# Altium footprint library Actuator_Base_Board.PcbLib: 18 footprints (part 1 of 2)
Each footprint in its own frame and in the unit in brackets; x right, y up, seen from the top. Pads: shape width x height; smd on the part's side, far side on the other; paste and mask are expansions set on the pad; w line width, h text height; cw(c..) or ccw(c..) is an arc to the next point about the centre after c.
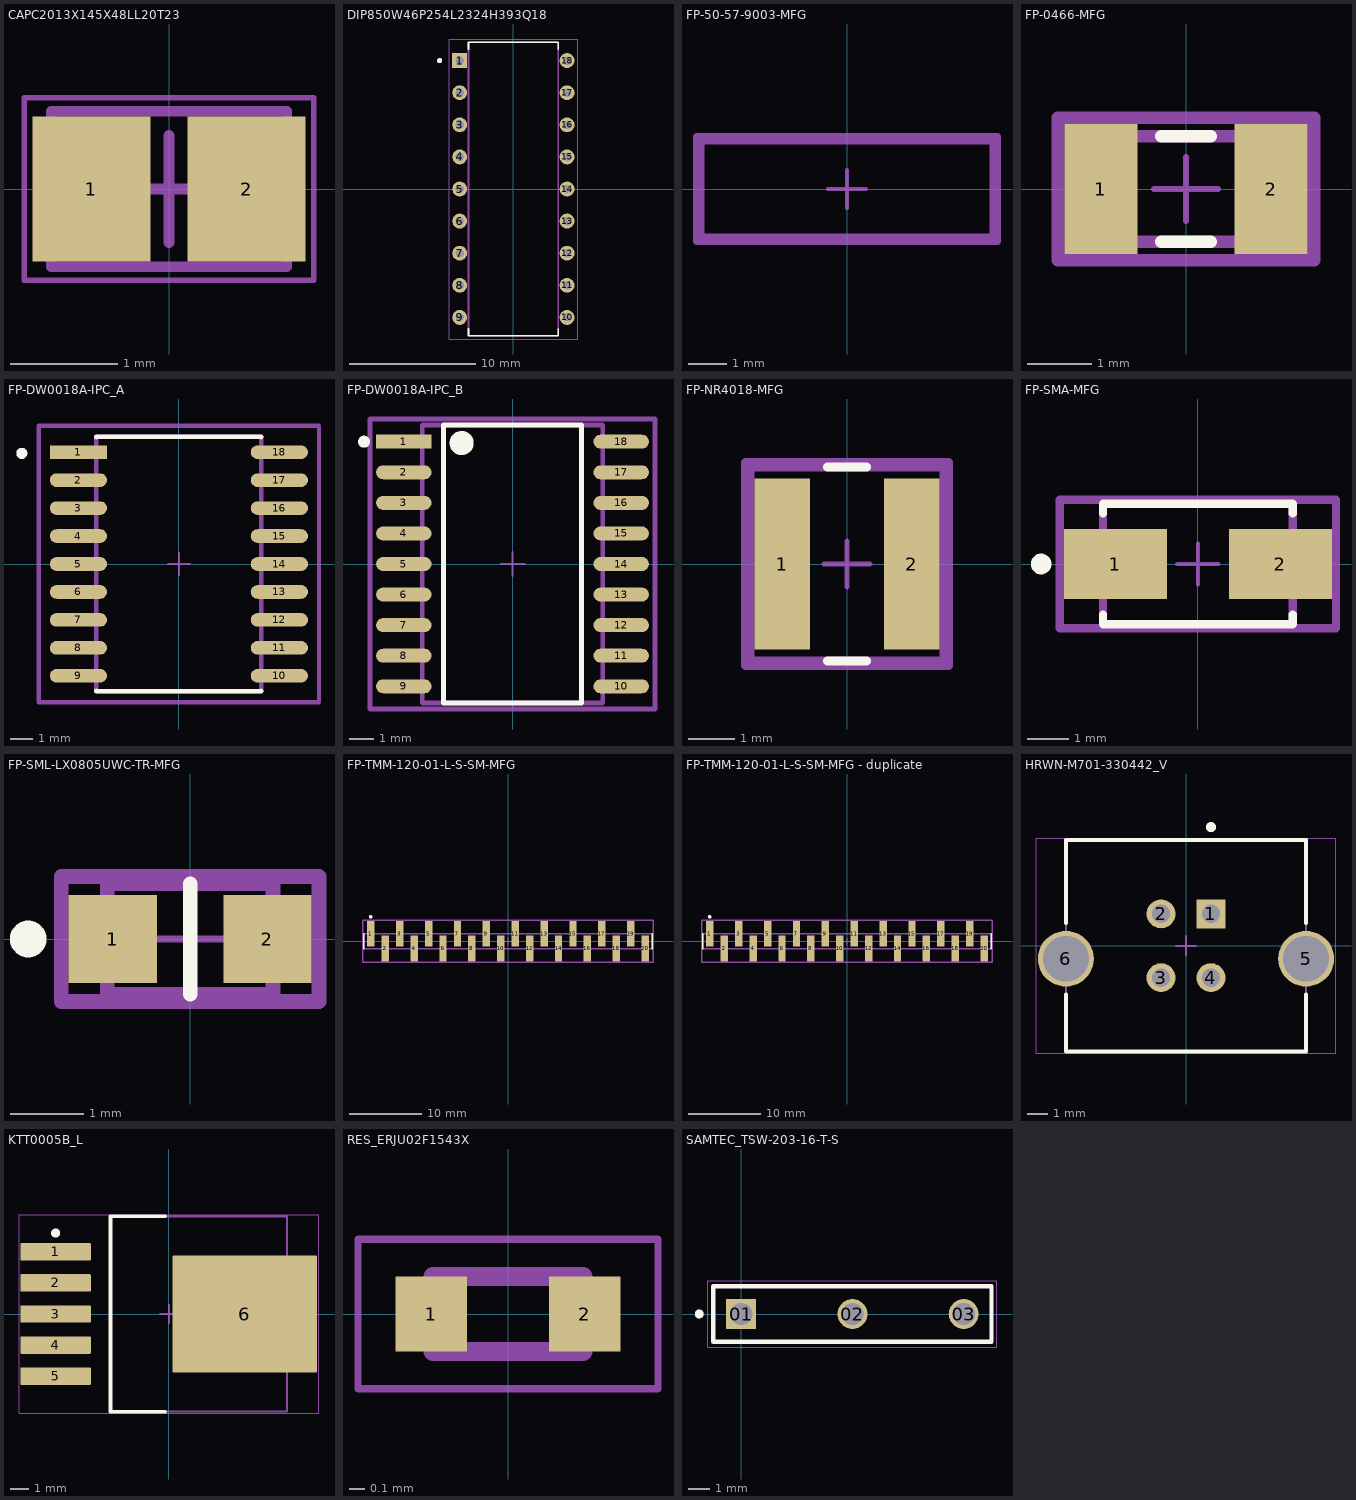
[diagram p0: the footprints below, top view; thin cyan lines are the x and y axes]

## CAPC2013X145X48LL20T23 [mm] "Chip Capacitor, 2-Leads, Body 2.00x1.25mm, IPC High Density"
height 1.45
pads (2):
  rect 1.1x1.35 smd: 1(-0.725,0) 2(0.725,0)
Mechanical 13:
  lines w0.1: -1.1,-0.725 1.1,-0.725 1.1,0.725 -1.1,0.725 -1.1,-0.725
Top Courtyard:
  lines w0.05: -1.35,-0.85 1.35,-0.85 1.35,0.85 -1.35,0.85 -1.35,-0.85
  lines w0.1: -0.5,0 0.5,0 ; 0,-0.5 0,0.5
3D body: height 1.45, standoff 0, extent 0.62,-0.725 1.1,0.725
3D body: height 1.45, standoff 0, extent -1.1,-0.725 -0.62,0.725
3D body: height 1.45, standoff 0, extent -0.62,-0.725 0.62,0.725

## DIP850W46P254L2324H393Q18 [mm]
height 3.93
pads (18):
  rect 1.178x1.178 / inner round 1.178 / far side rect 1.178x1.178 hole 0.67: 1(-4.25,10.16)
  round 1.178 hole 0.67: 2(-4.25,7.62) 3(-4.25,5.08) 4(-4.25,2.54) 5(-4.25,0) 6(-4.25,-2.54) 7(-4.25,-5.08) 8(-4.25,-7.62) 9(-4.25,-10.16) 10(4.25,-10.16) 11(4.25,-7.62) 12(4.25,-5.08) 13(4.25,-2.54) 14(4.25,0) 15(4.25,2.54) 16(4.25,5.08) 17(4.25,7.62) 18(4.25,10.16)
Top Overlay:
  circle w0.2: c-5.839,10.16 r0.1
  lines w0.127: -3.55,-11.069 -3.55,-11.62 3.55,-11.62 3.55,-11.069 ; -3.55,11.069 -3.55,11.62 3.55,11.62 3.55,11.069
Mechanical 13:
  circle w0.2: c-5.839,10.16 r0.1
  lines w0.127: -3.55,-11.62 3.55,-11.62 3.55,11.62 -3.55,11.62 -3.55,-11.62
Top Courtyard:
  lines w0.05: -5.089,-11.87 -5.089,11.87 5.089,11.87 5.089,-11.87 -5.089,-11.87
3D body "step_temp.STEP": height 3.93, standoff -3.3, extent -4.375,-11.62 4.375,11.62

## FP-50-57-9003-MFG [mm]
Top 3D Body:
  lines w0.2: -3.795,-1.255 3.795,-1.255 3.795,1.255 -3.795,1.255 -3.795,-1.255
Top Assembly:
  lines w0.2: -3.895,-1.355 3.895,-1.355 3.895,1.355 -3.895,1.355 -3.895,-1.355
Top Courtyard:
  lines w0.2: -3.895,-1.355 3.895,-1.355 3.895,1.355 -3.895,1.355 -3.895,-1.355
Top Component Center:
  lines w0.1: -0.5,0 0.5,0 ; 0,-0.5 0,0.5
3D body "Conn_Molex_50-57-9003_eec.STEP": height 0.25, standoff 0, extent -3.895,-1.355 3.895,1.355

## FP-0466-MFG [mil]
pads (2):
  rect 45x80 smd paste+0 mask+0: 1(-52.5,0) 2(52.5,0)
Top Overlay:
  lines w7.87: -15.24,-32.5 15.24,-32.5 ; -15.24,32.5 15.24,32.5
Top 3D Body:
  lines w7.87: -65,-32.5 65,-32.5 65,32.5 -65,32.5 -65,-32.5
Top Assembly:
  lines w7.87: -78.94,-43.94 78.94,-43.94 78.94,43.94 -78.94,43.94 -78.94,-43.94
  text ".Designator" at 0,7.38 h39.37
Top Courtyard:
  lines w7.87: -78.94,-43.94 78.94,-43.94 78.94,43.94 -78.94,43.94 -78.94,-43.94
Top Component Center:
  lines w3.94: -19.68,0 19.68,0 ; 0,-19.68 0,19.68
3D body "Fuse_Littelfuse_0466003_NR_eec.STEP": height 10, standoff 0, extent -78.94,-43.94 78.94,43.94

## FP-DW0018A-IPC_A [mm]
pads (18):
  rect 2.603x0.622 smd paste+0 mask+0: 1(-4.565,5.08)
  rrect100% 2.603x0.622 smd paste+0 mask+0: 2(-4.565,3.81) 3(-4.565,2.54) 4(-4.565,1.27) 5(-4.565,0) 6(-4.565,-1.27) 7(-4.565,-2.54) 8(-4.565,-3.81) 9(-4.565,-5.08) 10(4.565,-5.08) 11(4.565,-3.81) 12(4.565,-2.54) 13(4.565,-1.27) 14(4.565,0) 15(4.565,1.27) 16(4.565,2.54) 17(4.565,3.81) 18(4.565,5.08)
Top Overlay:
  circle w0.25: c-7.142,5.03 r0.125
  lines w0.2: -3.75,-5.766 -3.75,-5.775 3.75,-5.775 3.75,-5.766 ; -3.75,5.766 -3.75,5.775 3.75,5.775 3.75,5.766
Top 3D Body:
  lines w0.2: -3.75,-5.775 3.75,-5.775 3.75,5.775 -3.75,5.775 -3.75,-5.775
Top Assembly:
  lines w0.2: -6.367,-6.275 6.367,-6.275 6.367,6.275 -6.367,6.275 -6.367,-6.275
  text ".Designator" at 0,0.187 h1
Top Courtyard:
  lines w0.2: -6.367,-6.275 6.367,-6.275 6.367,6.275 -6.367,6.275 -6.367,-6.275
Top Component Center:
  lines w0.1: -0.5,0 0.5,0 ; 0,-0.5 0,0.5
3D body "IC_Texas_Instruments_ULN2803ADWRG4_eec.STEP": height 0.25, standoff 0, extent -6.367,-6.275 6.367,6.275

## FP-DW0018A-IPC_B [mm]
pads (18):
  rect 2.303x0.582 smd paste+0 mask+0: 1(-4.515,5.08)
  rrect100% 2.303x0.582 smd paste+0 mask+0: 2(-4.515,3.81) 3(-4.515,2.54) 4(-4.515,1.27) 5(-4.515,0) 6(-4.515,-1.27) 7(-4.515,-2.54) 8(-4.515,-3.81) 9(-4.515,-5.08) 10(4.515,-5.08) 11(4.515,-3.81) 12(4.515,-2.54) 13(4.515,-1.27) 14(4.515,0) 15(4.515,1.27) 16(4.515,2.54) 17(4.515,3.81) 18(4.515,5.08)
Top Overlay:
  circle w0.25: c-6.167,5.08 r0.125
  circle w0.5: c-2.114,5.025 r0.25
  lines w0.2: -2.864,-5.775 -2.864,5.775 2.864,5.775 2.864,-5.775 -2.864,-5.775
Top 3D Body:
  lines w0.2: -3.75,-5.775 -3.75,5.775 3.75,5.775 3.75,-5.775 -3.75,-5.775
Top Assembly:
  lines w0.2: -5.917,-6.025 -5.917,6.025 5.917,6.025 5.917,-6.025 -5.917,-6.025
  text ".Designator" at 0,0.187 h1
Top Courtyard:
  lines w0.2: -5.917,-6.025 -5.917,6.025 5.917,6.025 5.917,-6.025 -5.917,-6.025
Top Component Center:
  lines w0.1: -0.5,0 0.5,0 ; 0,-0.5 0,0.5
3D body "IC_Texas_Instruments_ULN2803ADWRG4_eec.STEP": height 0.25, standoff 0, extent -5.917,-6.025 5.917,6.025

## FP-NR4018-MFG [mm]
pads (2):
  rect 1.2x3.7 smd paste+0 mask+0: 1(-1.4,0) 2(1.4,0)
Top Overlay:
  lines w0.2: -0.425,-2.1 0.425,-2.1 ; -0.425,2.1 0.425,2.1
Top 3D Body:
  lines w0.2: -2.1,-2.1 2.1,-2.1 2.1,2.1 -2.1,2.1 -2.1,-2.1
Top Assembly:
  lines w0.2: -2.2,-2.2 2.2,-2.2 2.2,2.2 -2.2,2.2 -2.2,-2.2
  text ".Designator" at 0,0.187 h1
Top Courtyard:
  lines w0.2: -2.2,-2.2 2.2,-2.2 2.2,2.2 -2.2,2.2 -2.2,-2.2
Top Component Center:
  lines w0.1: -0.5,0 0.5,0 ; 0,-0.5 0,0.5
3D body "Ind_Taiyo_Yuden_NR4018T220M_eec.STEP": height 0.25, standoff 0, extent -2.2,-2.2 2.2,2.2

## FP-SMA-MFG [mm]
pads (2):
  rect 2.5x1.7 smd paste+0 mask+0: 1(-2,0) 2(2,0)
Top Overlay:
  circle w0.25: c-3.8,0 r0.125
  lines w0.2: -2.3,-1.225 -2.3,-1.46 2.3,-1.46 2.3,-1.225 ; -2.3,1.225 -2.3,1.46 2.3,1.46 2.3,1.225
Top 3D Body:
  lines w0.2: -2.3,-1.46 -2.3,1.46 2.3,1.46 2.3,-1.46 -2.3,-1.46
Top Assembly:
  lines w0.2: -3.35,-1.56 -3.35,1.56 3.35,1.56 3.35,-1.56 -3.35,-1.56
  text ".Designator" at 0,0.187 h1
Top Courtyard:
  lines w0.2: -3.35,-1.56 -3.35,1.56 3.35,1.56 3.35,-1.56 -3.35,-1.56
Top Component Center:
  lines w0.1: -0.5,0 0.5,0 ; 0,-0.5 0,0.5
3D body "Diode_Diodes_Inc_SBRT5A50SA-13_eec.STEP": height 0.25, standoff 0, extent -3.35,-1.56 3.35,1.56

## FP-SML-LX0805UWC-TR-MFG [mm]
pads (2):
  rect 1.2x1.2 smd paste+0 mask+0: 1(-1.05,0) 2(1.05,0)
Top Overlay:
  circle w0.25: c-2.2,0 r0.125
  lines w0.2: 0,-0.75 0,0.75
Top 3D Body:
  lines w0.2: -1.125,-0.75 1.125,-0.75 1.125,0.75 -1.125,0.75 -1.125,-0.75
Top Assembly:
  lines w0.2: -1.75,-0.85 1.75,-0.85 1.75,0.85 -1.75,0.85 -1.75,-0.85
  text ".Designator" at 0,0.187 h1
Top Courtyard:
  lines w0.2: -1.75,-0.85 1.75,-0.85 1.75,0.85 -1.75,0.85 -1.75,-0.85
Top Component Center:
  lines w0.1: -0.5,0 0.5,0 ; 0,-0.5 0,0.5
3D body "Diode_Lumex_SML-LX0805UWC-TR_eec.STEP": height 0.25, standoff 0, extent -1.75,-0.85 1.75,0.85

## FP-TMM-120-01-L-S-SM-MFG [mm]
pads (20):
  rect 1.02x3.56 smd paste+0 mask+0: 1(-19,1.015) 2(-17,-1.015) 3(-15,1.015) 4(-13,-1.015) 5(-11,1.015) 6(-9,-1.015) 7(-7,1.015) 8(-5,-1.015) 9(-3,1.015) 10(-1,-1.015) 11(1,1.015) 12(3,-1.015) 13(5,1.015) 14(7,-1.015) 15(9,1.015) 16(11,-1.015) 17(13,1.015) 18(15,-1.015) 19(17,1.015) 20(19,-1.015)
Top Overlay:
  circle w0.25: c-19.025,3.37 r0.125
  lines w0.2: -19.885,-1.054 -20,-1.054 -20,1.054 -19.885,1.054 ; 19.885,-1.054 20,-1.054 20,1.054 19.885,1.054
Top 3D Body:
  lines w0.2: -20,-1.054 -20,1.054 20,1.054 20,-1.054 -20,-1.054
Top Assembly:
  lines w0.2: -20.1,-2.895 -20.1,2.895 20.1,2.895 20.1,-2.895 -20.1,-2.895
  text ".Designator" at 0,0.187 h1
Top Courtyard:
  lines w0.2: -20.1,-2.895 -20.1,2.895 20.1,2.895 20.1,-2.895 -20.1,-2.895
Top Component Center:
  lines w0.1: -0.5,0 0.5,0 ; 0,-0.5 0,0.5
3D body "Conn_Samtec_TMM-120-01-L-S-SM_eec.STEP": height 0.25, standoff 0, extent -20.1,-2.895 20.1,2.895

## FP-TMM-120-01-L-S-SM-MFG - duplicate [mm]
pads (20):
  rect 1.02x3.56 smd paste+0 mask+0: 1(-19,1.015) 2(-17,-1.015) 3(-15,1.015) 4(-13,-1.015) 5(-11,1.015) 6(-9,-1.015) 7(-7,1.015) 8(-5,-1.015) 9(-3,1.015) 10(-1,-1.015) 11(1,1.015) 12(3,-1.015) 13(5,1.015) 14(7,-1.015) 15(9,1.015) 16(11,-1.015) 17(13,1.015) 18(15,-1.015) 19(17,1.015) 20(19,-1.015)
Top Overlay:
  circle w0.25: c-19.025,3.37 r0.125
  lines w0.2: -19.885,-1.054 -20,-1.054 -20,1.054 -19.885,1.054 ; 19.885,-1.054 20,-1.054 20,1.054 19.885,1.054
Top 3D Body:
  lines w0.2: -20,-1.054 -20,1.054 20,1.054 20,-1.054 -20,-1.054
Top Assembly:
  lines w0.2: -20.1,-2.895 -20.1,2.895 20.1,2.895 20.1,-2.895 -20.1,-2.895
  text ".Designator" at 0,0.187 h1
Top Courtyard:
  lines w0.2: -20.1,-2.895 -20.1,2.895 20.1,2.895 20.1,-2.895 -20.1,-2.895
Top Component Center:
  lines w0.1: -0.5,0 0.5,0 ; 0,-0.5 0,0.5
3D body "Conn_Samtec_TMM-120-01-L-S-SM_eec.STEP": height 0.25, standoff 0, extent -20.1,-2.895 20.1,2.895

## HRWN-M701-330442_V [mm] "USB, 4-Leads, Body 12.04x10.6mm, Pitch 2.5mm"
height 16.25
pads (6):
  rect 1.45x1.45 hole 0.92: 1(1.25,1.6)
  round 1.45 hole 0.92: 2(-1.25,1.6) 3(-1.25,-1.6) 4(1.25,-1.6)
  round 2.8 hole 2.3: 5(6.02,-0.65) 6(-6.02,-0.65)
Top Overlay:
  circle w0.25: c1.25,5.952 r0.127
  lines w0.2: -6.02,-2.45 -6.02,-5.3 6.02,-5.3 6.02,-2.45 ; -6.02,1.15 -6.02,5.3 6.02,5.3 6.02,1.15
Mechanical 13:
  lines w0.1: -6.02,-5.3 6.02,-5.3 6.02,5.3 -6.02,5.3 -6.02,-5.3
Top Courtyard:
  lines w0.05: -7.52,-5.4 7.52,-5.4 7.52,5.4 -7.52,5.4 -7.52,-5.4
  lines w0.1: -0.5,0 0.5,0 ; 0,-0.5 0,0.5
3D body "m701-330442_asm.stp": height 16.5, standoff -5.1, extent -7.33,-5.715 7.33,4.985

## KTT0005B_L [mm] "DPAK, 5-Leads, Body 10.65x9.65mm, Pitch 1.7mm, IPC High Density"
height 4.83
pads (6):
  rrect11% 3.85x0.95 smd: 1(-6.2,3.4) 2(-6.2,1.7) 3(-6.2,0) 4(-6.2,-1.7) 5(-6.2,-3.4)
  rrect2% 7.9x6.4 smd: 6(4.15,0)
Top Overlay:
  circle w0.25: c-6.2,4.425 r0.125
  lines w0.2: -0.2,-5.35 -3.2,-5.35 -3.2,5.35 -0.2,5.35
Mechanical 1:
  text ".Designator" at -1.905,-0.508 h1.3
Mechanical 13:
  lines w0.1: -3.2,-5.325 6.45,-5.325 6.45,5.325 -3.2,5.325 -3.2,-5.325
Top Courtyard:
  lines w0.05: -8.2,-5.425 8.2,-5.425 8.2,5.425 -8.2,5.425 -8.2,-5.425
  lines w0.1: -0.5,0 0.5,0 ; 0,-0.5 0,0.5
3D body: height 4.83, standoff 0, extent -3.2,-5.325 6.45,5.325

## PCBComponent_1 [mm]

## RES_ERJU02F1543X [mm]
pads (2):
  rect 0.475x0.5 smd: 1(-0.512,0) 2(0.512,0)
Mechanical 13:
  lines w0.127: -0.5,-0.25 0.5,-0.25 0.5,0.25 -0.5,0.25 -0.5,-0.25
Top Courtyard:
  lines w0.05: -1,-0.5 1,-0.5 1,0.5 -1,0.5 -1,-0.5

## SAMTEC_TSW-203-16-T-S [mm]
pads (3):
  rect 1.37x1.37 hole 1.02: 01(0,0)
  round 1.37 hole 1.02: 02(5.08,0) 03(10.16,0)
Top Overlay:
  circle w0.2: c-1.92,0 r0.1
  lines w0.2: -1.27,-1.27 11.43,-1.27 11.43,1.27 -1.27,1.27 -1.27,-1.27
Mechanical 13:
  circle w0.2: c-1.92,0 r0.1
  lines w0.1: -1.27,-1.27 11.43,-1.27 11.43,1.27 -1.27,1.27 -1.27,-1.27
Top Courtyard:
  lines w0.05: -1.52,-1.52 11.68,-1.52 11.68,1.52 -1.52,1.52 -1.52,-1.52